# Altium integrated library Big_Library_Mounting_Hole.IntLib: 4 symbols
Pins are listed as number, name and electrical type; pins without a type are passive.

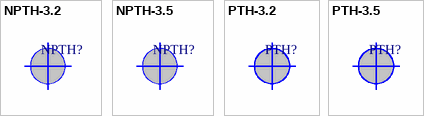
[diagram p0: symbols NPTH-3.2 to PTH-3.5]

## NPTH-3.2
designator NPTH?, comment Mounting Hole  (value not drawn)
Non-Plated Mounting Hole 3.2mm; Hole Type: NPTH; Hole Diameter: 3.2mm
footprint NPTH-3.2

## NPTH-3.5
designator NPTH?, comment Mounting Hole  (value not drawn)
Non-Plated Mounting Hole 3.5mm; Hole Type: NPTH; Hole Diameter: 3.5mm
footprint NPTH-3.5

## PTH-3.2
designator PTH?, comment Mounting Hole  (value not drawn)
Plated Hole Mounting Hole 3.2mm; Hole Type: PTH; Hole Diameter: 3.2mm
footprint PTH-3.2

## PTH-3.5
designator PTH?, comment Mounting Hole  (value not drawn)
Plated Hole Mounting Hole 3.5mm; Hole Type: PTH; Hole Diameter: 3.5mm
footprint PTH-3.5